# Altium schematic symbol library Semicondutores_Sche.SchLib: 37 symbols
Pins are listed as number, name and electrical type; pins without a type are passive.

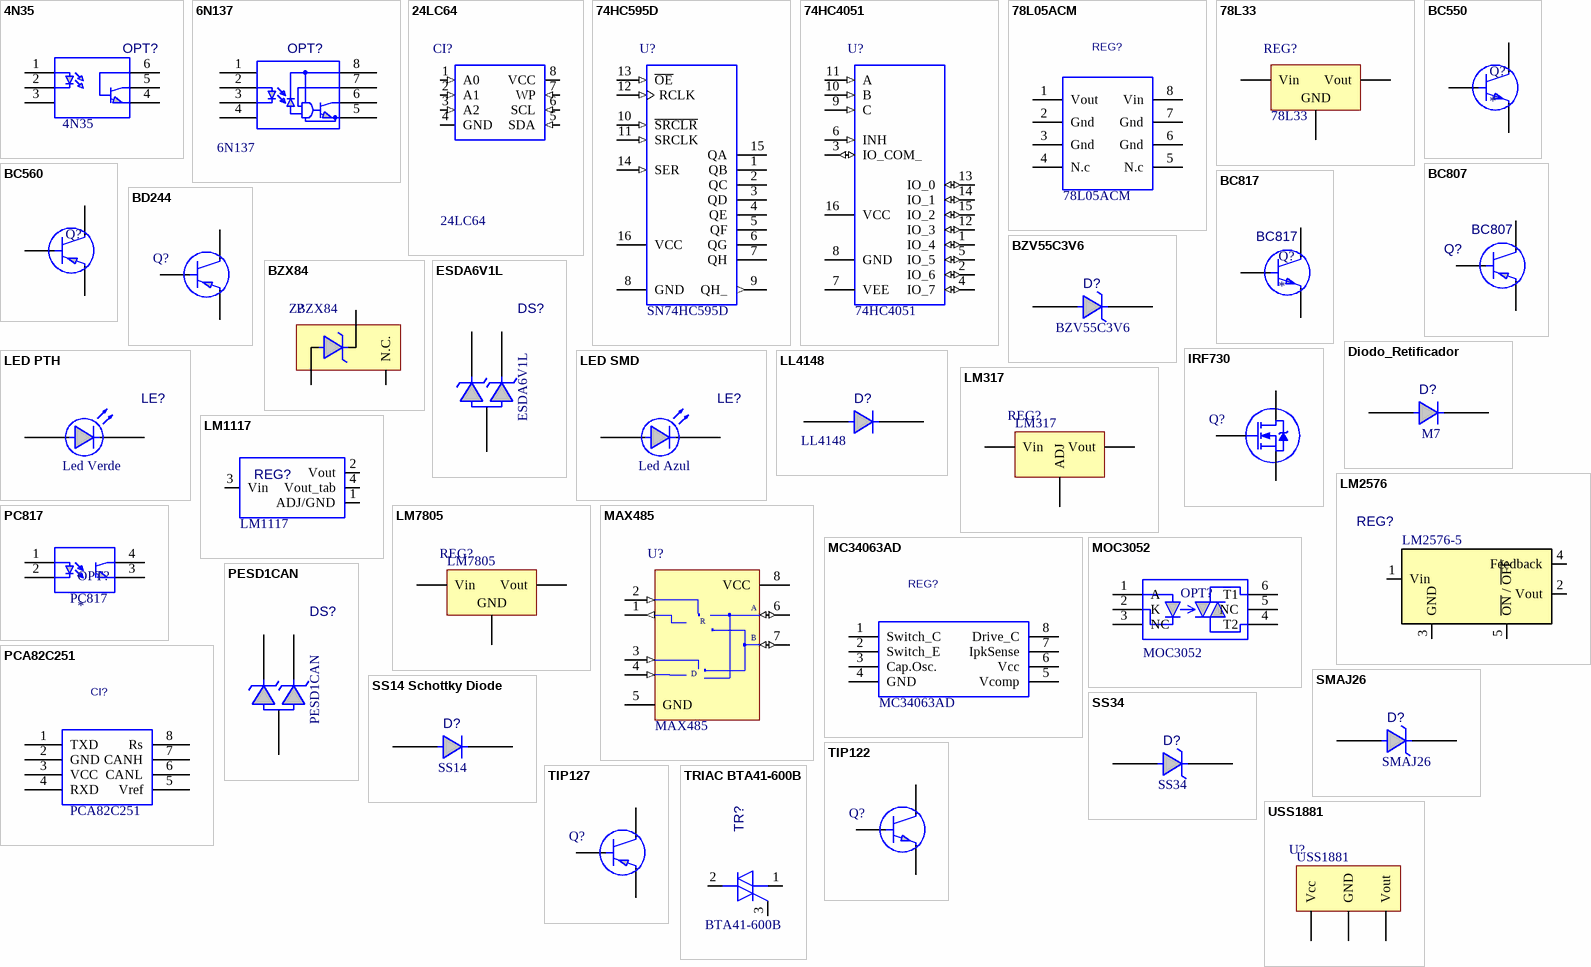
[diagram p0: symbols 4N35 to USS1881]

## 4N35
designator OPT?
Opto Acoplador 4N35; Encapsulamento: DIP 6 - SMD; Valor: *; Marca: *; Observação: *; Descrição: Optoacoplador; Modelo: 4N35
footprint DIP-6 SMD
footprint DIP-6
pins: 1, 2 A, 3 K, 4, 5 GND, 6 OUT

## 6N137
designator OPT?
Encapsulamento: DIP 8 - PTH; Descrição: Optoacoplador de Alta Velocidade; Valor: *; Marca: *; Observação: *; Modelo: 6N137
footprint DIP-8
pins: 1, 2 A, 3 K, 4, 5 GND, 6 OUT, 7 EN, 8 VCC

## 24LC64
designator CI?
Memória EEPROM; Encapsulamento: DIP-8; Observação: Montado sobre Soquete Torneado; Descrição: Memória EEPROM; Valor: *; Modelo: 24LC64
footprint DIP-8
pins: 1 A0 (in), 2 A1 (in), 3 A2 (in), 4 GND (power), 5 SDA (in), 6 SCL (in), 7 WP (in), 8 VCC (power)

## 74HC595D
designator U?  Modelo: SN74HC595D  (hidden comment: 74HC595D)
Descrição: Circuito Integrado 8-bits Shift Register; Encapsulamento: SMD - SOIC 8; Valor: *; Observação: *
footprint SOIC16
pins: 1 QB (hiz), 2 QC (hiz), 3 QD (hiz), 4 QE (hiz), 5 QF (hiz), 6 QG (hiz), 7 QH (hiz), 8 GND (power), 9 QH_ (out), 10 ~{SRCLR} (in), 11 SRCLK (in), 12 RCLK (in), 13 ~{OE} (in), 14 SER (in), 15 QA (hiz), 16 VCC (power)

## 74HC4051
designator U?
Descrição: Circuito Integrado 8 Canais Multiplexador/Demutiplexador; Encapsulamento: SMD - SOIC 8; Valor: *; Observação: *; Modelo: 74HC4051
footprint SOIC16
pins: 1 IO_4 (io), 2 IO_6 (io), 3 IO_COM_ (io), 4 IO_7 (io), 5 IO_5 (io), 6 INH (in), 7 VEE (power), 8 GND (power), 9 C (in), 10 B (in), 11 A (in), 12 IO_3 (io), 13 IO_0 (io), 14 IO_1 (io), 15 IO_2 (io), 16 VCC (power)

## 78L05ACM
designator REG?
Regulador de Tensão 78L05 SOIC; Descrição: Regulador de Tensão 5V; Encapsulamento: SMD SOIC8; Valor: *; Marca: *; Observação: *; Modelo: 78L05ACM
footprint SOIC8
pins: 1 Vout, 2 Gnd, 3 Gnd, 4 N.c, 5 N.c, 6 Gnd, 7 Gnd, 8 Vin

## 78L33
designator REG?
Regulador de Tensão 3V3; Encapsulamento: PTH TO92 ou SOT89; Descrição: Regulador de Tensão 3V3; Valor: *; Marca: *; Observação: *; Modelo: 78L33
footprint TO92
footprint SOT89M (SOT89, 3-Leads, Body 4.5x2.4 mm, Pitch 1.5mm, Lead Span 4.1mm, IPC Low Density)
pins: 1 Vout, 2 GND, 3 Vin

## BC550
designator Q?
Transistor PTH NPN; Encapsulamento: PTH-TO-92; Modelo: BC550; Descrição: Transistor PTH NPN; Valor: *; Marca: *; Observação: *
footprint TO92
pins: 1 C, 2 B, 3 E

## BC560
designator Q?  (value not drawn)
Transistor PTH PNP; Encapsulamento: PTH-TO-92; Modelo: BC550; Descrição: Transistor PTH PNP; Valor: *; Marca: *
footprint TO92
pins: 1 C, 2 B, 3 E

## BC807
designator Q?
Transistor SMD PNP; Encapsulamento: SMD-SOT-23; Descrição: Transistor SMD PNP; Valor: *; Marca: *; Observação: *; Modelo: BC807
footprint SOT23 (Transistor)
pins: 1 B, 2 E, 3 C

## BC817
designator Q?  Modelo: BC817
Transistor SMD NPN; Descrição: Transistor NPN; Encapsulamento: SMD-SOT-23; Valor: *; Marca: *; Observação: *
footprint SOT23 (Transistor)
pins: 1 B, 2 E, 3 C

## BD244
designator Q?  (value not drawn)
Transistor PNP de Média Potência; Encapsulamento: PTH TO-220; Descrição: Transistor PNP de Média Potência; Valor: *; Marca: *; Observação: *
footprint TO-220
footprint TO-220 - 90º
pins: 1 B, 2 C, 3 E

## BZV55C3V6
designator D?
Diodo Zenner 3V6; Encapsulamento: SMD - SOD80C; Descrição: Diodo Zenner 3V6; Valor: *; Marca: *; Observação: *; Modelo: BZV55C3V6
footprint SOD80C MINIMELF
pins: 1, 2

## BZX84
designator Z?, comment Modelo: BZX84  (hidden comment: U18)
Diodo Zenner Regulador de Tensão; Encapsulamento: SMD - SOT23; Marca: NXP; Descrição: Diodo Zenner Regulador de Tensão; Valor: *; Observação: *
footprint SOT23 (Transistor)
pins: 1 A, 2 N.C., 3 K

## Diodo_Retificador
designator D?, comment M7
Diodo Retificador; Encapsulamento: SMD (DO-214AC); Descrição: Diodo Retificador; Observação: *; Valor: *; Modelo: M7
footprint DO214AC
pins: 1 K, 2 A

## ESDA6V1L
designator DS?
Diodo de Proteção ESD; Encapsulamento: SMD SOT23; Descrição: Diodo de Proteção ESD; Observação: *; Valor: *; Modelo: ESDA6V1L
footprint SOT23 (Transistor)
pins: 1 A, 2 K, 3

## IRF730
designator Q?  (value not drawn)
Mosfet Canal N; Descrição: Mosfet de Canal N; Encapsulamento: PTH TO-220; Valor: *; Marca: *; Observação: *; Modelo: *
footprint TO-220
footprint TO-220 - 90º
pins: 1 G, 2 D, 3 S

## LED PTH
designator LE?  Observação: Led Verde  (hidden comment: LED PTH)
Encapsulamento: PTH 3mm; Descrição: Led PTH; Valor: *; Marca: *; Modelo: *
footprint LED PTH 3mm VERDE (LED PTH 3mm)
footprint LED PTH 3mm AMARELO (LED PTH 3mm)
footprint LED PTH 3mm VERMELHO (LED PTH 3mm)
footprint LED PTH 3mm AZUL (LED PTH 3mm)
footprint LED PTH 5mm AMARELO (LED PTH 5mm)
footprint LED PTH 5mm AZUL (LED PTH 5mm)
footprint LED PTH 5mm VERDE (LED PTH 5mm)
footprint LED PTH 5mm VERMELHO (LED PTH 5mm)
pins: 1, 2

## LED SMD
designator LE?  Observação: Led Azul  (hidden comment: LED SMD)
Descrição: Led SMD; Valor: *; Encapsulamento: SMD 0805; Marca: *; Modelo: *
footprint LED 0805 (0805)
footprint LED 1206 (1206)
pins: 1, 2

## LL4148
designator D?
Diodo LL4148 Melf; Descrição: Diodo SMD LL4148; Encapsulamento: SMD MiniMelf; Valor: *; Marca: *; Observação: *; Modelo: LL4148
footprint SOD80C MINIMELF
pins: 1, 2

## LM317
designator REG?
Regulador de Tensão 5V; Descrição: Regulador de Tensão Variavel; Encapsulamento: PTH TO-220; Valor: *; Marca: *; Observação: *; Modelo: LM317
footprint TO-220
footprint TO-220 - 90º
pins: 1 ADJ, 2 Vout, 3 Vin

## LM1117
designator REG?
Regulador de Tensão LM1117; Encapsulamento: SOT223; Descrição: Regulador de Tensão; Valor: *; Marca: *; Observação: *; Modelo: LM1117
footprint SOT223 (LM1117 SOT223, 4-Leads, Body 6.5x3.5mm, Pitch 2.3mm, Lead Span 7mm, IPC Low Density)
pins: 1 ADJ/GND, 2 Vout, 3 Vin, 4 Vout_tab

## LM2576
designator REG?  Modelo: LM2576-5  (hidden comment: LM2576)
Regulador de Tensão LM2576; Encapsulamento: SMD SOT-263-5; Descrição: Regulador de Tensão; Valor: *; Marca: *; Observação: *
footprint TO-263-5 (D2-PAK, 6-Pads, Body 8,9x9,9mm (max), IPC Low Density)
footprint TO-220 - 5
footprint TO-220 - 5 - 90º
pins: 1 Vin, 2 Vout, 3 GND, 4 Feedback, 5 ~{ON} / ~{OFF}

## LM7805
designator REG?
Regulador de Tensão 5V; Descrição: Regulador de Tensão 3V3; Encapsulamento: PTH TO-220; Valor: *; Marca: *; Observação: *; Modelo: LM7805
footprint TO-220
footprint TO-220 - 90º
pins: 1 Vin, 2 GND, 3 Vout

## MAX485
designator U?
Descrição: Transiver Max485; Encapsulamento: DIP-8; Marca: Maxim; Valor: *; Observação: *; Modelo: MAX485
footprint DIP-8
footprint SOIC8
pins: 1 RO (out), 2 ~{RE} (in), 3 DE (in), 4 DI (in), 5 GND (power), 6 A (io), 7 B (io), 8 VCC (power)
text: R; D

## MC34063AD
designator REG?
Regulador de Tensão Variavel; Encapsulamento: SMD SOIC8; Descrição: Regulador de Tensão Variavel; Valor: *; Marca: *; Observação: *; Modelo: MC34063AD
footprint SOIC8
pins: 1 Switch_C, 2 Switch_E, 3 Cap.Osc., 4 GND, 5 Vcomp, 6 Vcc, 7 IpkSense, 8 Drive_C

## MOC3052
designator OPT?  Modelo: MOC3052  (hidden comment: *)
OptoAcoplador MOC3052; Descrição: OptoAcoplador Driver Triac; Encapsulamento: PTH-TO-92; Valor: *; Marca: *; Observação: *
footprint DIP-6 SMD
footprint DIP-6
pins: 1 A, 2 K, 3 NC, 4 T2, 5 NC, 6 T1

## PC817
designator OPT?  Modelo: PC817
OptoAcoplador 4 terminais; Encapsulamento: SMD; Descrição: OptoAcoplador 4 Terminais; Valor: *; Marca: *; Observação: *
footprint DIP-4
footprint DIP-4 SMD
pins: 1 A, 2 K, 3 EMISSOR, 4 COLETOR

## PCA82C251
designator CI?
Driver de CAN; Descrição: Driver de Rede CAN; Encapsulamento: SMD SOIC8; Marca: NXP; Valor: *; Observação: *; Modelo: PCA82C251
footprint SOIC8
pins: 1 TXD, 2 GND, 3 VCC, 4 RXD, 5 Vref, 6 CANL, 7 CANH, 8 Rs

## PESD1CAN
designator DS?
Diodo de Proteção ESD de Rede CAN; Encapsulamento: SMD SOT23; Descrição: Diodo de Proteção ESD de Rede CAN; Observação: *; Valor: *; Modelo: PESD1CAN
footprint SOT23 (Transistor)
pins: 1 A, 2 K, 3

## SMAJ26
designator D?
DIODO-SCHOTTKY-SMD 3A 40V; Descrição: Diodo Supressor de Tensão Transiente; Encapsulamento: SMD - DO214AB; Valor: *; Marca: *; Observação: *; Modelo: SMAJ26
footprint DO214AC
pins: 1, 2

## SS14 Schottky Diode
designator D?, comment Modelo: SS14  (hidden comment: DIODO_SS14_S1D)
Diodo SMD Shottky; Descrição: Diodo Schottky Retificador; Encapsulamento: SMD (DO-214AC); Marca: Vishay; Observação: *
footprint DO214AC
pins: 1 K, 2 A

## SS34
designator D?
DIODO-SCHOTTKY-SMD 3A 40V; Descrição: Diodo Schottky 3A 40V; Encapsulamento: SMD - DO214AB; Valor: *; Marca: *; Observação: *; Modelo: SS34
footprint DO214AB (Diodo SMD package SMC - DO214AB)
pins: 1, 2

## TIP122
designator Q?  (value not drawn)
Transistor NPN de Média Potência; Encapsulamento: PTH TO-220; Descrição: Transistor NPN de Média Potência; Valor: *; Marca: *; Observação: *; Modelo: *
footprint TO-220
footprint TO-220 - 90º
pins: 1 B, 2 C, 3 E

## TIP127
designator Q?  (value not drawn)
Transistor PNP de Média Potência; Encapsulamento: PTH TO-220; Descrição: Transistor PNP de Média Potência; Valor: *; Marca: *; Observação: *; Modelo: *
footprint TO-220
footprint TO-220 - 90º
pins: 1 B, 2 C, 3 E

## TRIAC BTA41-600B
designator TR?  Modelo: BTA41-600B  (hidden comment: TRIAC BTA41-600B)
TRIAC_TOP3_BTA; Descrição: TRIAC 40 A; Encapsulamento: PTH - BTA41; Valor: *; Marca: *; Observação: *
footprint BTA41
pins: 1 M1, 2 M2, 3 G

## USS1881
designator U?
Sensor de Efeito Hall; Encapsulamento: PTH - SIP3; Descrição: Sensor de Efeito Hall; Valor: *; Marca: *; Observação: *; Modelo: USS1881
footprint SIP-3
pins: 1 Vcc, 2 GND, 3 Vout